# EAGLE library part KM48C2100 (library Custom)
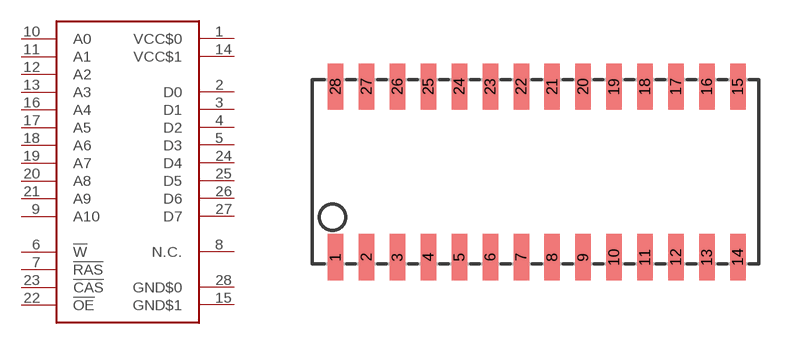
[diagram p19: symbol with the pads of SOJ28/3; footprint SOJ28/3]

Designator prefix -

## KM48C2100  [SOJ28/3]
1  VCC$0  pwr
2  D0
3  D1
4  D2
5  D3
6  !W  in
7  !RAS  in
8  N.C.  in
9  A10  in
10  A0  in
11  A1  in
12  A2  in
13  A3  in
14  VCC$1  pwr
15  GND$1  pwr
16  A4  in
17  A5  in
18  A6  in
19  A7  in
20  A8  in
21  A9  in
22  !OE  in
23  !CAS  in
24  D4
25  D5
26  D6
27  D7
28  GND$0  pwr

## Footprint SOJ28/3 (pad centres in mm)
Small Outline J-Bend
smd 0.635 x 1.905: 1 -8.255,-3.505; 2 -6.985,-3.505; 3 -5.715,-3.505; 4 -4.445,-3.505; 5 -3.175,-3.505; 6 -1.905,-3.505; 7 -0.635,-3.505; 8 0.635,-3.505; 9 1.905,-3.505; 10 3.175,-3.505; 11 4.445,-3.505; 12 5.715,-3.505; 13 6.985,-3.505; 14 8.255,-3.505; 15 8.255,3.505; 16 6.985,3.505; 17 5.715,3.505; 18 4.445,3.505; 19 3.175,3.505; 20 1.905,3.505; 21 0.635,3.505; 22 -0.635,3.505; 23 -1.905,3.505; 24 -3.175,3.505; 25 -4.445,3.505; 26 -5.715,3.505; 27 -6.985,3.505; 28 -8.255,3.505